# Altium footprint library LC-SOT-323(SC-70).PcbLib: 2 footprints
Each footprint in its own frame and in the unit in brackets; x right, y up, seen from the top. Pads: shape width x height; smd on the part's side, far side on the other; paste and mask are expansions set on the pad; w line width, h text height; cw(c..) or ccw(c..) is an arc to the next point about the centre after c.
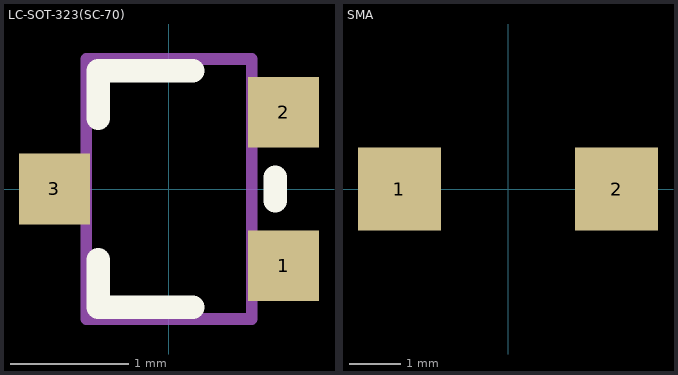
[diagram p0: the footprints below, top view; thin cyan lines are the x and y axes]

## LC-SOT-323(SC-70) [mm]
pads (3):
  rect 0.6x0.6 smd: 1(0.97,-0.65) 2(0.97,0.65) 3(-0.97,0)
Top Overlay:
  lines w0.2: -0.6,-0.6 -0.6,-1 0.2,-1 ; -0.6,0.6 -0.6,1 0.2,1 ; 0.9,-0.1 0.9,0.1
Mechanical 13:
  lines w0.1: -0.7,-1.1 -0.7,1.1 0.7,1.1 0.7,-1.1 -0.7,-1.1
3D body "User Library-SOT323 (SC70-3)-1.STEP": height 1.1, standoff 0, extent -1.123,-1.1 1.122,1.1

## SMA [mm]
pads (2):
  rect 1.6x1.6 smd: 1(-2.1,0) 2(2.1,0)
3D body: height 2.3, standoff 0, extent -2.1,-1.3 2.1,1.3